# EAGLE library part CY8CKIT-142 (library NicksParts)
PSoC 4 BLE Kit Connectors: S9189-ND (24 pin) S9188-ND (20 pin)
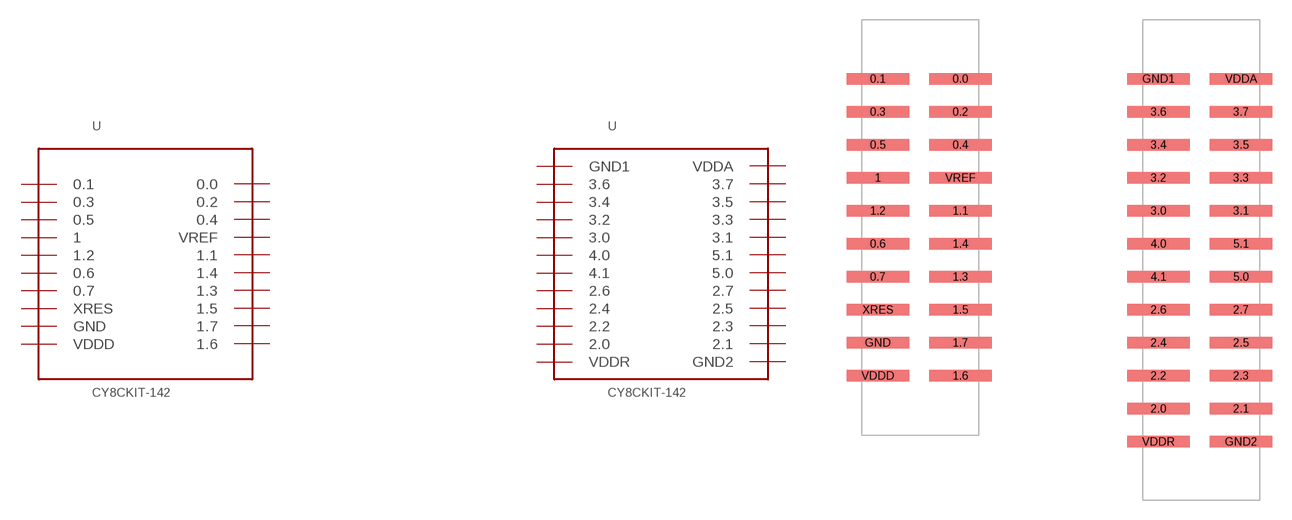
[diagram p13: symbol with the pads of CY8CKIT-142; footprint CY8CKIT-142]

Designator prefix U

## CY8CKIT-142  [CY8CKIT-142]
0.0  0.0
0.1  0.1
0.2  0.2
0.3  0.3
0.4  0.4
0.5  0.5
0.6  0.6
0.7  0.7
1  1
1.1  1.1
1.2  1.2
1.3  1.3
1.4  1.4
1.5  1.5
1.6  1.6
1.7  1.7
2.0  2.0
2.1  2.1
2.2  2.2
2.3  2.3
2.4  2.4
2.5  2.5
2.6  2.6
2.7  2.7
3.0  3.0
3.1  3.1
3.2  3.2
3.3  3.3
3.4  3.4
3.5  3.5
3.6  3.6
3.7  3.7
4.0  4.0
4.1  4.1
5.0  5.0
5.1  5.1
GND  GND  pwr
GND1  GND1  pwr
GND2  GND2  pwr
VDDA  VDDA  pwr
VDDD  VDDD  pwr
VDDR  VDDR  pwr
VREF  VREF
XRES  XRES

## Footprint CY8CKIT-142 (pad centres in mm)
smd 4.826 x 0.889: 0.0 -7.62,11.43; 0.1 -13.97,11.43; 0.2 -7.62,8.89; 0.3 -13.97,8.89; 0.4 -7.62,6.35; 0.5 -13.97,6.35; 0.6 -13.97,-1.27; 0.7 -13.97,-3.81; 1 -13.97,3.81; 1.1 -7.62,1.27; 1.2 -13.97,1.27; 1.3 -7.62,-3.81; 1.4 -7.62,-1.27; 1.5 -7.62,-6.35; 1.6 -7.62,-11.43; 1.7 -7.62,-8.89; 2.0 7.62,-13.97; 2.1 13.97,-13.97; 2.2 7.62,-11.43; 2.3 13.97,-11.43; 2.4 7.62,-8.89; 2.5 13.97,-8.89; 2.6 7.62,-6.35; 2.7 13.97,-6.35; 3.0 7.62,1.27; 3.1 13.97,1.27; 3.2 7.62,3.81; 3.3 13.97,3.81; 3.4 7.62,6.35; 3.5 13.97,6.35; 3.6 7.62,8.89; 3.7 13.97,8.89; 4.0 7.62,-1.27; 4.1 7.62,-3.81; 5.0 13.97,-3.81; 5.1 13.97,-1.27; GND -13.97,-8.89; GND1 7.62,11.43; GND2 13.97,-16.51; VDDA 13.97,11.43; VDDD -13.97,-11.43; VDDR 7.62,-16.51; VREF -7.62,3.81; XRES -13.97,-6.35